# EAGLE library part TXB0108 (library IC)
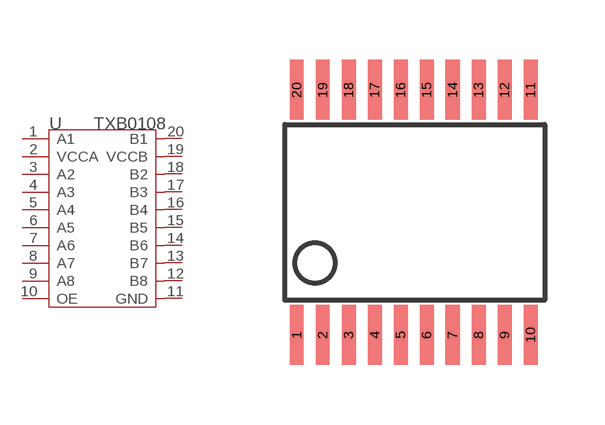
[diagram p158: symbol with the pads of TSSOP20; footprint TSSOP20]

Designator prefix U

## TXB0108  [TSSOP20]
1  A1
2  VCCA  sup
3  A2
4  A3
5  A4
6  A5
7  A6
8  A7
9  A8
10  OE  in
11  GND  sup
12  B8
13  B7
14  B6
15  B5
16  B4
17  B3
18  B2
19  VCCB  sup
20  B1

## Footprint TSSOP20 (pad centres in mm)
smd 0.35 x 1.5: 1 -3.25,-3.065; 2 -2.6,-3.065; 3 -1.95,-3.065; 4 -1.3,-3.065; 5 -0.65,-3.065; 6 0,-3.065; 7 0.65,-3.065; 8 1.3,-3.065; 9 1.95,-3.065; 10 2.6,-3.065; 11 2.6,3.065; 12 1.95,3.065; 13 1.3,3.065; 14 0.65,3.065; 15 0,3.065; 16 -0.65,3.065; 17 -1.3,3.065; 18 -1.95,3.065; 19 -2.6,3.065; 20 -3.25,3.065